# EAGLE library part CAN_PENTA_EDGE (library CAN-PENTA_EDGE)
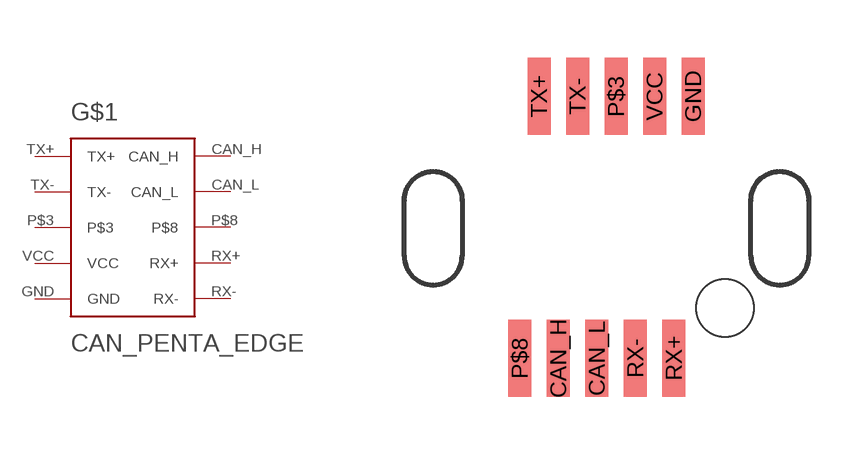
[diagram p0: symbol with the pads of CAN_PENTA_EDGE; footprint CAN_PENTA_EDGE]

Designator prefix -

## CAN_PENTA_EDGE  [CAN_PENTA_EDGE]
CAN_H  CAN_H
CAN_L  CAN_L
GND  GND
P$3  P$3
P$8  P$8
RX+  RX+
RX-  RX-
TX+  TX+
TX-  TX-
VCC  VCC

## Footprint CAN_PENTA_EDGE (pad centres in mm)
smd 0.6 x 2: CAN_H -1.25,-3.4; CAN_L -0.25,-3.4; GND 2.25,3.4; P$3 0.25,3.4; P$8 -2.25,-3.4; RX+ 1.75,-3.4; RX- 0.75,-3.4; TX+ -1.75,3.4; TX- -0.75,3.4; VCC 1.25,3.4
hole 1.5 at 3.08,-2.1